# Altium footprint library Gateway.PcbLib: 33 footprints (part 2 of 3)
Each footprint in its own frame and in the unit in brackets; x right, y up, seen from the top. Pads: shape width x height; smd on the part's side, far side on the other; paste and mask are expansions set on the pad; w line width, h text height; cw(c..) or ccw(c..) is an arc to the next point about the centre after c.
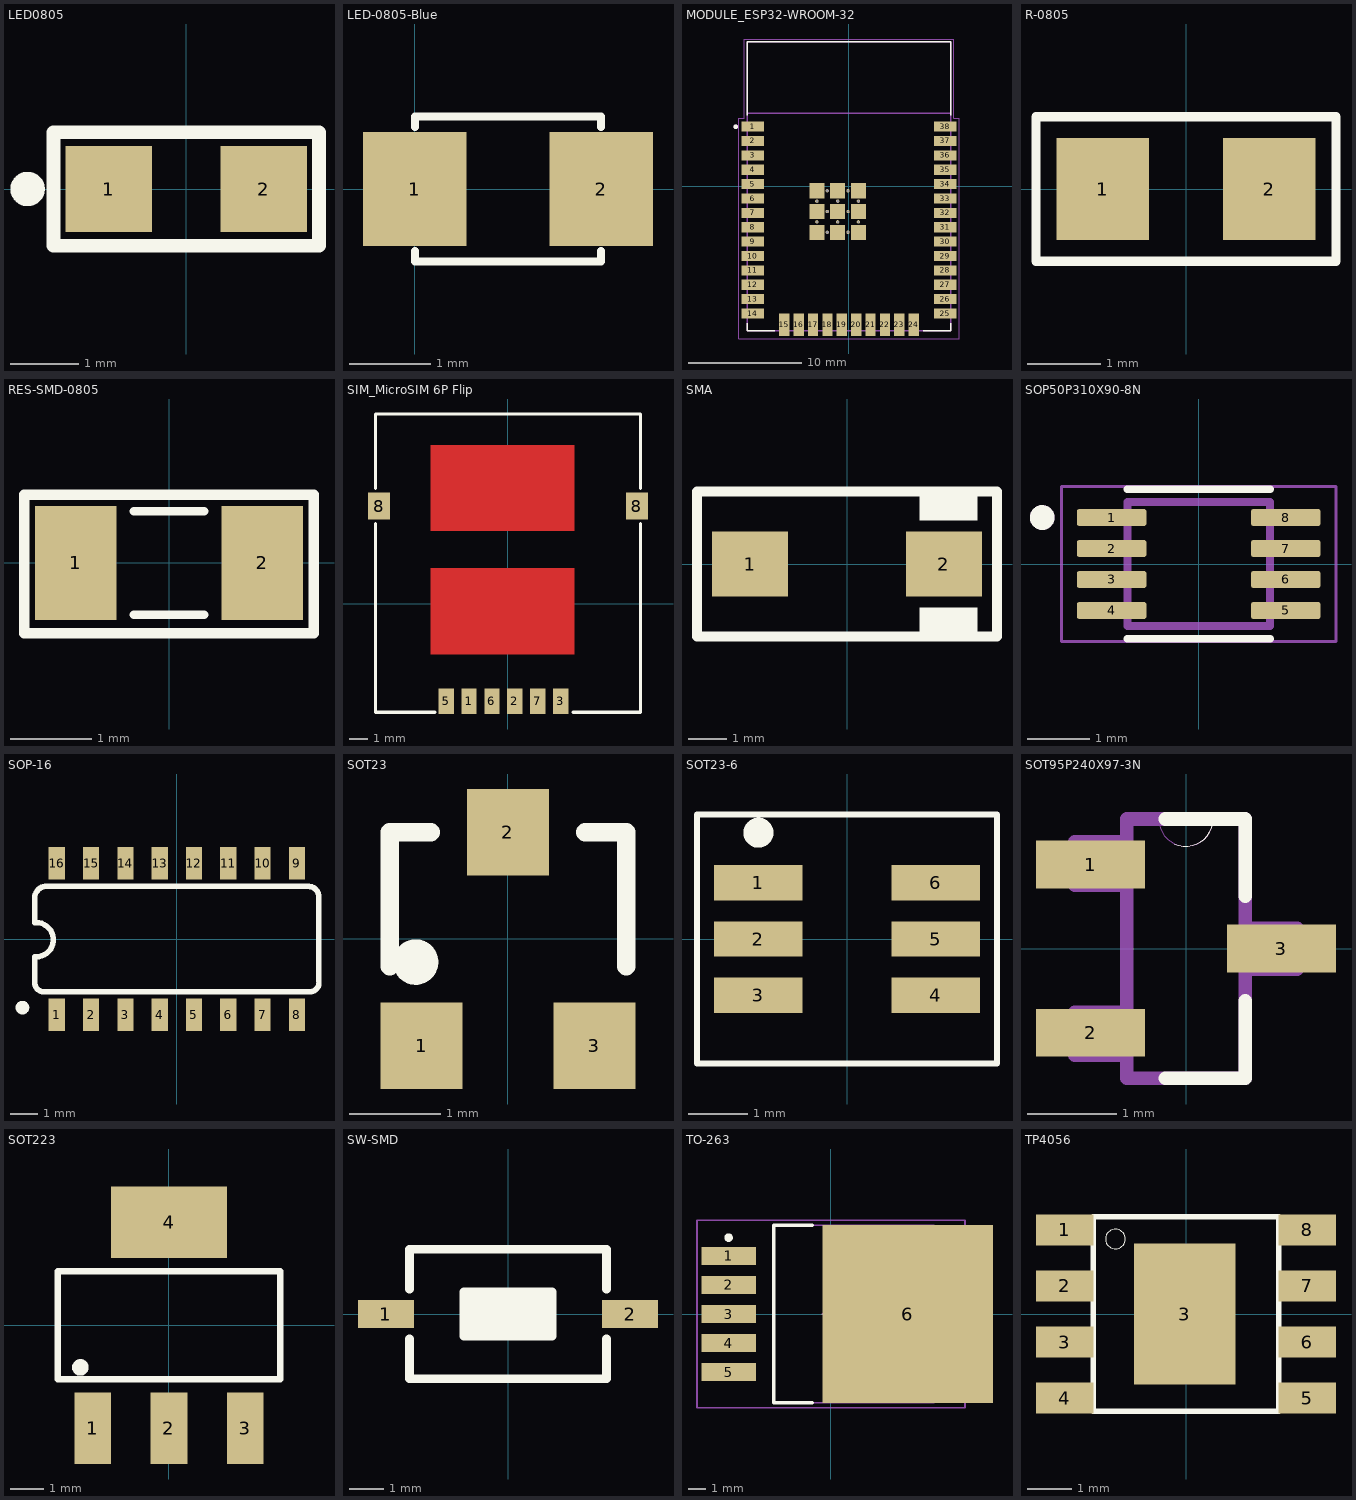
[diagram p1: the footprints below, top view; thin cyan lines are the x and y axes]

## LED0805 [mil] "Chip Resistor; Body 2.0 x 1.3 mm (LxW typ)"
height 100
pads (2):
  rect 50x50 smd: 1(-45,0) 2(45,0)
Top Overlay:
  circle w10: c-92,0 r5
  lines w7.87: 77,32 77,-33 -77,-33 -77,33 77,33
3D body: height 19.68, standoff 0, extent -60,-25 60,25
3D body: height 47.24, standoff 19.68, extent -35,-25 35,25

## LED-0805-Blue [mil]
height 200
pads (2):
  rect 50x55 smd: 1(0,0) 2(90,0)
Top Overlay:
  lines w4: 0,-30 0,-35 90,-35 90,-30 ; 0,30 0,35 90,35 90,30
3D body "User Library-led_0805-blue.step": height 43.31, standoff 0, extent 5.24,-24.6 84.77,24.61

## MODULE_ESP32-WROOM-32 [mm]
height 5.08
pads (59):
  rect 2x0.9 smd: 1(-8.5,5.26) 2(-8.5,3.99) 3(-8.5,2.72) 4(-8.5,1.45) 5(-8.5,0.18) 6(-8.5,-1.09) 7(-8.5,-2.36) 8(-8.5,-3.63) 9(-8.5,-4.9) 10(-8.5,-6.17) 11(-8.5,-7.44) 12(-8.5,-8.71) 13(-8.5,-9.98) 14(-8.5,-11.25) 25(8.5,-11.25) 26(8.5,-9.98) 27(8.5,-8.71) 28(8.5,-7.44) 29(8.5,-6.17) 30(8.5,-4.9) 31(8.5,-3.63) 32(8.5,-2.36) 33(8.5,-1.09) 34(8.5,0.18) 35(8.5,1.45) 36(8.5,2.72) 37(8.5,3.99) 38(8.5,5.26)
  rect 0.9x2 smd: 15(-5.715,-12.25) 16(-4.445,-12.25) 17(-3.175,-12.25) 18(-1.905,-12.25) 19(-0.635,-12.25) 20(0.635,-12.25) 21(1.905,-12.25) 22(3.175,-12.25) 23(4.445,-12.25) 24(5.715,-12.25)
  rect 1.33x1.33 smd: 39_1(-2.835,-0.405) 39_2(-1,-0.405) 39_3(0.835,-0.405) 39_4(-2.835,-2.24) 39_5(-1,-2.24) 39_6(0.835,-2.24) 39_7(-2.835,-4.075) 39_8(-1,-4.075) 39_9(0.835,-4.075)
  round 0.3 hole 0.2: 39_10(-1.917,-0.405) 39_11(-0.082,-0.405) 39_12(-2.835,-1.322) 39_13(-1,-1.322) 39_14(0.835,-1.322) 39_15(-1.917,-2.24) 39_16(-0.082,-2.24) 39_17(-2.835,-3.157) 39_18(-1,-3.157) 39_19(0.835,-3.157) 39_20(-1.917,-4.075) 39_21(-0.082,-4.075)
Top Overlay:
  circle w0.2: c-10,5.25 r0.1
  lines w0.127: -9,-12.1 -9,-12.75 -6.55,-12.75 ; -9,6.25 -9,12.75 9,12.75 9,6.25 ; 6.55,-12.75 9,-12.75 9,-12.1
Mechanical 13:
  circle w0.2: c-10,5.25 r0.1
  lines w0.127: -9,6.45 9,6.45 ; -9,6.45 -9,12.75 9,12.75 9,6.45 ; -9,6.45 -9,-12.75 9,-12.75 9,6.45
  text "ANTENNA" at -6,9 h1.78
Mechanical 15:
  lines w0.05: -9.75,-13.5 -9.75,6 -9.25,6 -9.25,13 9.25,13 9.25,6 9.75,6 9.75,-13.5 -9.75,-13.5
3D body "ESP32-WROOM-32.STEP": height 3.2, standoff 0, extent -9.017,-12.75 8.983,12.75
3D body: height 0.25, standoff 0, extent -10.541,10.287 -10.541,10.287

## R-0805 [mil] "Compoment SMD 80x50mil"
height 50
pads (2):
  rect 50x55 smd: 1(-45,0) 2(45,0)
Top Overlay:
  lines w5: -81,-39 -81,39 81,39 81,-39 -81,-39
3D body "SW3dPS-0805 SMD Resistor.STEP": height 30.79, standoff 0, extent -39.36,-24.6 39.38,24.61

## RES-SMD-0805 [mil]
height 200
pads (2):
  rect 39.37x55 smd: 1(-45,0) 2(45,0)
Top Overlay:
  lines w4: -17,-25 17,-25 ; -17,25 17,25
  lines w5: -70,-34 70,-34 70,33 -70,33 -70,-34
3D body "SW3dPS-0805 SMD Resistor.STEP": height 31.39, standoff 0.6, extent -39.37,-24.6 39.37,24.61

## SIM_MicroSIM 6P Flip [mm]
height 12.75
pads (8):
  rect 0.85x1.4 smd: 1(-2.16,-5.415) 2(0.38,-5.415) 3(2.92,-5.415) 5(-3.43,-5.415) 6(-0.89,-5.415) 7(1.65,-5.415)
  rect 1.2x1.5 smd: 8(-7.15,5.415) 8(7.15,5.415)
Top Layer:
  pour cut-out: 3.683,8.788 -4.293,8.788 -4.293,4.039 3.683,4.039
  pour cut-out: 3.683,-2.79 -4.293,-2.79 -4.293,1.96 3.683,1.96
Top Overlay:
  lines w0.178: -7.35,6.4 -7.35,10.516 7.35,10.516 7.35,6.4 ; -7.35,4.445 -7.35,-6.02 -4.064,-6.02 ; 3.607,-6.02 7.35,-6.02 7.35,4.445
3D body "xknano-1308.stp": height 1.7, standoff -0.05, extent -7.605,-5.89 7.595,10.41

## SMA [mm]
height 5.08
pads (2):
  rect 2x1.7 smd: 1(-2.544,0) 2(2.544,0)
Top Overlay:
  rectangle: 1.905,-1.905 3.429,-1.145
  region: 3.429,1.905 1.905,1.905 1.905,1.145 3.429,1.145
  lines w0.254: -3.937,-1.903 3.937,-1.903 3.937,1.903 -3.937,1.903 -3.937,-1.903
3D body: height 0.2, standoff 0, extent 2.032,-0.864 2.87,0.864
3D body: height 1.14, standoff 0, extent 2.718,-0.864 2.87,0.864
3D body: height 1.14, standoff 0.94, extent 2.489,-0.864 2.87,0.864
3D body: height 2.29, standoff 0.2, extent 2.032,-0.864 2.642,0.864
3D body: height 2.29, standoff 0.2, extent -2.642,-0.864 -2.032,0.864
3D body: height 1.14, standoff 0.94, extent -2.87,-0.864 -2.489,0.864
3D body: height 1.14, standoff 0, extent -2.87,-0.864 -2.718,0.864
3D body: height 0.2, standoff 0, extent -2.87,-0.864 -2.032,0.864
3D body: height 2.29, standoff 0.2, extent -2.64,-1.395 2.642,1.395

## SOP50P310X90-8N [mm]
height 5.08
pads (8):
  rrect25% 1.12x0.27 smd: 1(-1.405,0.75) 2(-1.405,0.25) 3(-1.405,-0.25) 4(-1.405,-0.75) 5(1.405,-0.75) 6(1.405,-0.25) 7(1.405,0.25) 8(1.405,0.75)
Top Overlay:
  circle w0.2: c-2.525,0.75 r0.1
  lines w0.127: -1.15,-1.205 1.15,-1.205 ; -1.15,1.205 1.15,1.205
Mechanical 13:
  circle w0.2: c-2.525,0.75 r0.1
  lines w0.127: -1.15,-1 1.15,-1 1.15,1 -1.15,1 -1.15,-1
Mechanical 15:
  lines w0.05: -2.215,-1.25 2.215,-1.25 2.215,1.25 -2.215,1.25 -2.215,-1.25

## SOP-16 [mm]
height 5.08
pads (16):
  rect 0.6x1.2 smd: 1(-4.445,-2.8) 2(-3.175,-2.8) 3(-1.905,-2.8) 4(-0.635,-2.8) 5(0.635,-2.8) 6(1.905,-2.8) 7(3.175,-2.8) 8(4.445,-2.8) 9(4.445,2.8) 10(3.175,2.8) 11(1.905,2.8) 12(0.635,2.8) 13(-0.635,2.8) 14(-1.905,2.8) 15(-3.175,2.8) 16(-4.445,2.8)
Top Overlay:
  circle w0.254: c-5.715,-2.54 r0.127
  lines w0.203: -5.257,-1.668 ccw(c-4.927,-1.615) -4.874,-1.946 ; -5.258,-1.665 -5.258,-0.66 ; -5.258,0.61 -5.258,1.453 ; -5.257,1.463 cw(c-4.827,1.515) -4.88,1.946 ; -5.207,-0.66 ccw(c-5.207,-0.025) -5.207,0.61 ; -4.877,-1.946 4.977,-1.946 ; -4.877,1.946 4.877,1.946 cw(c4.877,1.565) 5.258,1.565 5.258,-1.565 ; 4.979,-1.946 ccw(c4.927,-1.615) 5.257,-1.563
Mechanical 13:
  region: -4.191,-3.302 -4.699,-3.302 -4.699,-2.273 -4.191,-2.273
  region: -2.921,-3.302 -3.429,-3.302 -3.429,-2.273 -2.921,-2.273
  region: -1.651,-3.302 -2.159,-3.302 -2.159,-2.273 -1.651,-2.273
  region: -0.381,-3.302 -0.889,-3.302 -0.889,-2.273 -0.381,-2.273
  region: 0.889,-3.302 0.381,-3.302 0.381,-2.273 0.889,-2.273
  region: 2.159,-3.302 1.651,-3.302 1.651,-2.273 2.159,-2.273
  region: 3.429,-3.302 2.921,-3.302 2.921,-2.273 3.429,-2.273
  region: 4.699,-3.302 4.191,-3.302 4.191,-2.273 4.699,-2.273
  region: -4.191,2.286 -4.699,2.286 -4.699,3.365 -4.191,3.365
  region: -2.921,2.286 -3.429,2.286 -3.429,3.302 -2.921,3.302
  region: -1.651,2.286 -2.159,2.286 -2.159,3.302 -1.651,3.302
  region: -0.381,2.286 -0.889,2.286 -0.889,3.302 -0.381,3.302
  region: 0.889,2.286 0.381,2.286 0.381,3.302 0.889,3.302
  region: 2.159,2.286 1.651,2.286 1.651,3.302 2.159,3.302
  region: 3.429,2.286 2.921,2.286 2.921,3.302 3.429,3.302
  region: 4.699,2.286 4.191,2.286 4.191,3.302 4.699,3.302
3D body: height 1.75, standoff 0, extent -4.95,-1.95 4.95,1.95
3D body: height 0.2, standoff 0, extent -4.697,-3.475 -4.204,-2.779
3D body: height 0.9, standoff 0, extent -4.697,-2.779 -4.204,-2.454
3D body: height 0.9, standoff 0.7, extent -4.697,-2.454 -4.204,-1.415
3D body: height 0.9, standoff 0.7, extent -3.427,-2.454 -2.934,-1.415
3D body: height 0.9, standoff 0, extent -3.427,-2.779 -2.934,-2.454
3D body: height 0.2, standoff 0, extent -3.427,-3.475 -2.934,-2.779
3D body: height 0.2, standoff 0, extent -0.887,-3.475 -0.394,-2.779
3D body: height 0.9, standoff 0, extent -0.887,-2.779 -0.394,-2.454
3D body: height 0.9, standoff 0.7, extent -0.887,-2.454 -0.394,-1.415
3D body: height 0.9, standoff 0.7, extent -2.157,-2.454 -1.664,-1.415
3D body: height 0.9, standoff 0, extent -2.157,-2.779 -1.664,-2.454
3D body: height 0.2, standoff 0, extent -2.157,-3.475 -1.664,-2.779
3D body: height 0.2, standoff 0, extent 1.653,-3.475 2.146,-2.779
3D body: height 0.9, standoff 0, extent 1.653,-2.779 2.146,-2.454
3D body: height 0.9, standoff 0.7, extent 1.653,-2.454 2.146,-1.415
3D body: height 0.9, standoff 0.7, extent 0.383,-2.454 0.876,-1.415
3D body: height 0.9, standoff 0, extent 0.383,-2.779 0.876,-2.454
3D body: height 0.2, standoff 0, extent 0.383,-3.475 0.876,-2.779
3D body: height 0.2, standoff 0, extent 4.193,-3.475 4.686,-2.779
3D body: height 0.9, standoff 0, extent 4.193,-2.779 4.686,-2.454
3D body: height 0.9, standoff 0.7, extent 4.193,-2.454 4.686,-1.415
3D body: height 0.9, standoff 0.7, extent 2.923,-2.454 3.416,-1.415
3D body: height 0.9, standoff 0, extent 2.923,-2.779 3.416,-2.454
3D body: height 0.2, standoff 0, extent 2.923,-3.475 3.416,-2.779
3D body: height 0.2, standoff 0, extent -3.416,2.779 -2.924,3.475
3D body: height 0.9, standoff 0, extent -3.416,2.454 -2.924,2.779
3D body: height 0.9, standoff 0.7, extent -3.416,1.415 -2.924,2.454
3D body: height 0.9, standoff 0.7, extent -4.686,1.415 -4.194,2.454
3D body: height 0.9, standoff 0, extent -4.686,2.454 -4.194,2.779
3D body: height 0.2, standoff 0, extent -4.686,2.779 -4.194,3.475
3D body: height 0.2, standoff 0, extent -0.876,2.779 -0.384,3.475
3D body: height 0.9, standoff 0, extent -0.876,2.454 -0.384,2.779
3D body: height 0.9, standoff 0.7, extent -0.876,1.415 -0.384,2.454
3D body: height 0.9, standoff 0.7, extent -2.146,1.415 -1.654,2.454
3D body: height 0.9, standoff 0, extent -2.146,2.454 -1.654,2.779
3D body: height 0.2, standoff 0, extent -2.146,2.779 -1.654,3.475
3D body: height 0.2, standoff 0, extent 1.664,2.779 2.156,3.475
3D body: height 0.9, standoff 0, extent 1.664,2.454 2.156,2.779
3D body: height 0.9, standoff 0.7, extent 1.664,1.415 2.156,2.454
3D body: height 0.9, standoff 0.7, extent 0.394,1.415 0.886,2.454
3D body: height 0.9, standoff 0, extent 0.394,2.454 0.886,2.779
3D body: height 0.2, standoff 0, extent 0.394,2.779 0.886,3.475
3D body: height 0.2, standoff 0, extent 2.934,2.779 3.426,3.475
3D body: height 0.9, standoff 0, extent 2.934,2.454 3.426,2.779
3D body: height 0.9, standoff 0.7, extent 2.934,1.415 3.426,2.454
3D body: height 0.9, standoff 0.7, extent 4.204,1.415 4.696,2.454
3D body: height 0.9, standoff 0, extent 4.204,2.454 4.696,2.779
3D body: height 0.2, standoff 0, extent 4.204,2.779 4.696,3.475

## SOT23 [mm] "SOT-23; 3 Leads; Body 3.1 x 2.5 mm, inc. leads (LxW max), Alternate Lead Configuration"
height 1.1
pads (3):
  rect 0.9x0.95 smd: 1(-0.95,-1.175) 2(0,1.175) 3(0.95,-1.175)
Top Overlay:
  circle w0.25: c-1.016,-0.254 r0.125
  lines w0.2: -1.3,-0.3 -1.3,1.175 -0.85,1.175 ; 0.85,1.175 1.3,1.175 1.3,-0.3

## SOT23-6 [mm] "SOT23, 5-Leads, Body 3.0x3.0mm (max), Pitch 0.95mm, IPC Medium Density"
height 1.45
pads (6):
  rect 1.5x0.6 smd: 1(-1.5,0.95) 2(-1.5,0) 3(-1.5,-0.95) 4(1.5,-0.95) 5(1.5,0) 6(1.5,0.95)
Top Overlay:
  circle w0.254: c-1.5,1.8 r0.127
  circle w0.25: c-1.5,1.8 r0.125
  lines w0.102: -2.159,2.107 1.905,2.107 ; -2.54,-2.107 -2.54,2.107 2.54,2.107 2.54,-2.107 -2.54,-2.107
3D body: height 0.15, standoff 0, extent 1.219,-1.168 1.753,-0.711
3D body: height 0.9, standoff 0, extent 1.092,-1.168 1.219,-0.711
3D body: height 0.9, standoff 0.75, extent 0.813,-1.168 1.092,-0.711
3D body: height 0.15, standoff 0, extent 1.219,0.732 1.753,1.189
3D body: height 0.9, standoff 0, extent 1.092,0.732 1.219,1.189
3D body: height 0.9, standoff 0.75, extent 0.813,0.732 1.092,1.189
3D body: height 0.15, standoff 0, extent -1.753,-1.189 -1.219,-0.732
3D body: height 0.9, standoff 0, extent -1.219,-1.189 -1.092,-0.732
3D body: height 0.9, standoff 0.75, extent -1.092,-1.189 -0.813,-0.732
3D body: height 0.15, standoff 0, extent -1.753,-0.239 -1.219,0.218
3D body: height 0.9, standoff 0, extent -1.219,-0.239 -1.092,0.218
3D body: height 0.9, standoff 0.75, extent -1.092,-0.239 -0.813,0.218
3D body: height 1.45, standoff 0, extent -0.875,-1.525 0.875,1.525
3D body: height 0.9, standoff 0.75, extent -1.092,0.711 -0.813,1.168
3D body: height 0.9, standoff 0, extent -1.219,0.711 -1.092,1.168
3D body: height 0.15, standoff 0, extent -1.753,0.711 -1.219,1.168
3D body: height 0.9, standoff 0.75, extent 0.813,-0.218 1.092,0.239
3D body: height 0.9, standoff 0, extent 1.092,-0.218 1.219,0.239
3D body: height 0.15, standoff 0, extent 1.219,-0.218 1.753,0.239

## SOT95P240X97-3N [mil]
height 200
pads (3):
  rect 48x21 smd: 1(-42,37) 2(-42,-37) 3(42,0)
Top Overlay:
  lines w0: -4.98,45.99 ccw(c-0.21,57.23) 12,57.02
  lines w6: -9,-57 26,-57 26,-23 ; -9,57 12,57 26,57 26,23
Mechanical 13:
  lines w0: -12,57 ccw(c0,57) 12,57
  lines w6: -26,-47 -26,-57 26,-57 26,-9 ; -26,-47 -26,-28 ; -26,-47 -49,-47 -49,-28 -26,-28 ; -26,-28 -26,28 ; -26,28 -26,47 ; -26,28 -49,28 -49,47 -26,47 ; -26,47 -26,57 -12,57 12,57 26,57 26,9 ; 26,-9 26,9 ; 26,-9 49,-9 49,9 26,9

## SOT223 [mm] "SOT-223/SC-73; 4 Leads; Body 6.7 x 7.3 mm, inc. leads (LxW max)"
height 1.8
pads (4):
  rect 1.1x2.15 smd: 1(-2.3,-3.1) 2(0,-3.1) 3(2.3,-3.1)
  rect 3.5x2.15 smd: 4(0,3.1)
Top Overlay:
  circle w0.25: c-2.665,-1.27 r0.125
  lines w0.2: -3.35,-1.625 -3.35,1.625 3.35,1.625 3.35,-1.625 -3.35,-1.625
3D body: height 2.54, standoff 0, extent -3.429,-1.651 3.429,1.651

## SW-SMD [mm] "Switch SMD type"
height 2.54
pads (2):
  rect 1.6x0.8 smd: 1(-3.5,0) 2(3.5,0)
Top Overlay:
  rectangle: -1.27,-0.635 1.27,0.635
  lines w0.254: -2.819,-0.711 -2.819,-1.854 2.819,-1.854 2.819,-0.711 ; -2.819,0.711 -2.819,1.854 2.819,1.854 2.819,0.711 ; -1.27,-0.635 -1.27,0.635 1.27,0.635 1.27,-0.635 -1.27,-0.635
3D body "User Library-Button-SMD.step": height 2.5, standoff 0, extent -3.05,-1.85 3.05,1.85

## TO-263 [mm]
height 5.08
pads (6):
  rect 3.2x1.05 smd: 1(-6,3.4) 2(-6,1.7) 3(-6,0) 4(-6,-1.7) 5(-6,-3.4)
  rect 10x10.45 smd: 6(4.5,0)
Top Overlay:
  circle w0.25: c-6,4.475 r0.125
  lines w0.2: -1.1,-5.2 -3.35,-5.2 -3.35,5.2 -1.1,5.2
Mechanical 13:
  lines w0.1: -3.35,-5.2 -3.35,5.2 6.05,5.2 6.05,-5.2 -3.35,-5.2
Mechanical 15:
  lines w0.1: -0.5,0 0.5,0 ; 0,-0.5 0,0.5 ; -7.85,-5.5 -7.85,5.5 7.85,5.5 7.85,-5.5 -7.85,-5.5
3D body: height 0.5, standoff 0, extent 6.05,-5.2 7.569,5.2
3D body: height 0.5, standoff 0, extent -6.566,-3.95 -4.305,-2.857
3D body: height 2, standoff 0, extent -4.953,-3.95 -4.293,-2.857
3D body: height 2, standoff 1.5, extent -4.953,-3.937 -3.251,-2.845
3D body: height 0.5, standoff 0, extent -6.54,-0.597 -4.28,0.495
3D body: height 2, standoff 0, extent -4.928,-0.597 -4.267,0.495
3D body: height 2, standoff 1.5, extent -4.928,-0.584 -3.226,0.508
3D body: height 2, standoff 1.5, extent -4.94,-2.273 -3.238,-1.181
3D body: height 2, standoff 0, extent -4.94,-2.286 -4.28,-1.194
3D body: height 0.5, standoff 0, extent -6.553,-2.286 -4.293,-1.194
3D body: height 0.5, standoff 0, extent -6.579,1.143 -4.318,2.235
3D body: height 2, standoff 0, extent -4.966,1.143 -4.305,2.235
3D body: height 2, standoff 1.5, extent -4.966,1.156 -3.264,2.248
3D body: height 2, standoff 1.5, extent -4.953,2.845 -3.251,3.937
3D body: height 2, standoff 0, extent -4.953,2.832 -4.293,3.924
3D body: height 0.5, standoff 0, extent -6.566,2.832 -4.305,3.924
3D body: height 4.65, standoff 0, extent -3.35,-5.2 6.05,5.2

## TP4056 [mm]
height 5.08
pads (9):
  rect 1.3x0.7 smd: 1(-2.75,1.905) 2(-2.75,0.635) 3(-2.75,-0.635) 4(-2.75,-1.905) 5(2.75,-1.905) 6(2.75,-0.635) 7(2.75,0.635) 8(2.75,1.905)
  rect 2.3x3.2 smd: 3(-0.025,0)
Top Overlay:
  circle w0: c-1.6,1.7 r0.224
  lines w0.127: -2.1,-2.2 2.1,-2.2 2.1,2.2 -2.1,2.2 -2.1,-2.2
3D body "TP4056 --3DModel-STEP-86487.STEP": height 1.75, standoff 0, extent -3.127,-2.45 2.873,2.45